# Altium footprint library PcbLib1.PcbLib: 1 footprints
Each footprint in its own frame and in the unit in brackets; x right, y up, seen from the top. Pads: shape width x height; smd on the part's side, far side on the other; paste and mask are expansions set on the pad; w line width, h text height; cw(c..) or ccw(c..) is an arc to the next point about the centre after c.
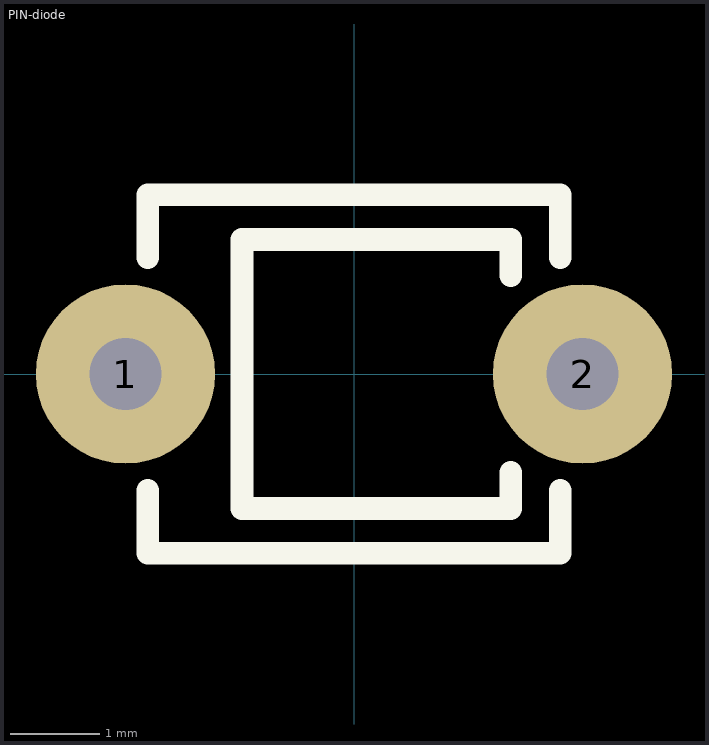
[diagram p0: the footprint, top view; thin cyan lines are the x and y axes]

## PIN-diode [mm]
pads (2):
  round 2 hole 0.8: 1(-2.55,0) 2(2.55,0)
Top Overlay:
  lines w0.254: -2.3,-1.3 -2.3,-2 2.3,-2 2.3,-1.3 ; -2.3,1.3 -2.3,2 2.3,2 2.3,1.3 ; 1.75,-1.1 1.75,-1.5 -1.25,-1.5 -1.25,1.5 1.75,1.5 1.75,1.1
3D body: height 2, standoff 0, extent -2.25,-2.125 2.25,2.125
3D body: height 1.5, standoff 0, extent -1.25,-1.5 1.75,1.5